# Altium schematic symbol library SnapEDAsch.SchLib: 1 symbol
Pins are listed as number, name and electrical type; pins without a type are passive.

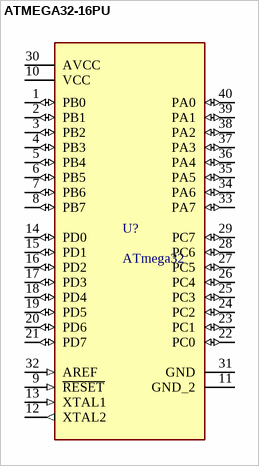
[diagram p0: symbol ATMEGA32-16PU]

## ATMEGA32-16PU
designator U?, comment ATmega32
AVR AVRÂ® ATmega Microcontroller IC 8-Bit 16MHz 32KB _16K x 16_ FLASH 40-PDIP; MP: ATMEGA32-16PU; MF: Microchip; Price: None; Package: DIP-40 Microchip; Value: *; Availability: Unavailable; SnapEDA_Link: https://www.snapeda.com/parts/ATMEGA32-16PU/Microchip/view-part/1759937/?ref=snap
footprint DIP254P1524X482-40
pins: 1 PB0 (io), 2 PB1 (io), 3 PB2 (io), 4 PB3 (io), 5 PB4 (io), 6 PB5 (io), 7 PB6 (io), 8 PB7 (io), 9 ~{RESET} (in), 10 VCC (power), 11 GND_2, 12 XTAL2 (out), 13 XTAL1 (in), 14 PD0 (io), 15 PD1 (io), 16 PD2 (io), 17 PD3 (io), 18 PD4 (io), 19 PD5 (io), 20 PD6 (io), 21 PD7 (io), 22 PC0 (io), 23 PC1 (io), 24 PC2 (io), 25 PC3 (io), 26 PC4 (io), 27 PC5 (io), 28 PC6 (io), 29 PC7 (io), 30 AVCC (power), 31 GND, 32 AREF (in), 33 PA7 (io), 34 PA6 (io), 35 PA5 (io), 36 PA4 (io), 37 PA3 (io), 38 PA2 (io), 39 PA1 (io), 40 PA0 (io)